# EAGLE library part MTXDOT-*1-A00-1 (library Multitech)
Multitech xDOT LORA MODULE UFL/TRC 868MHz for Europe
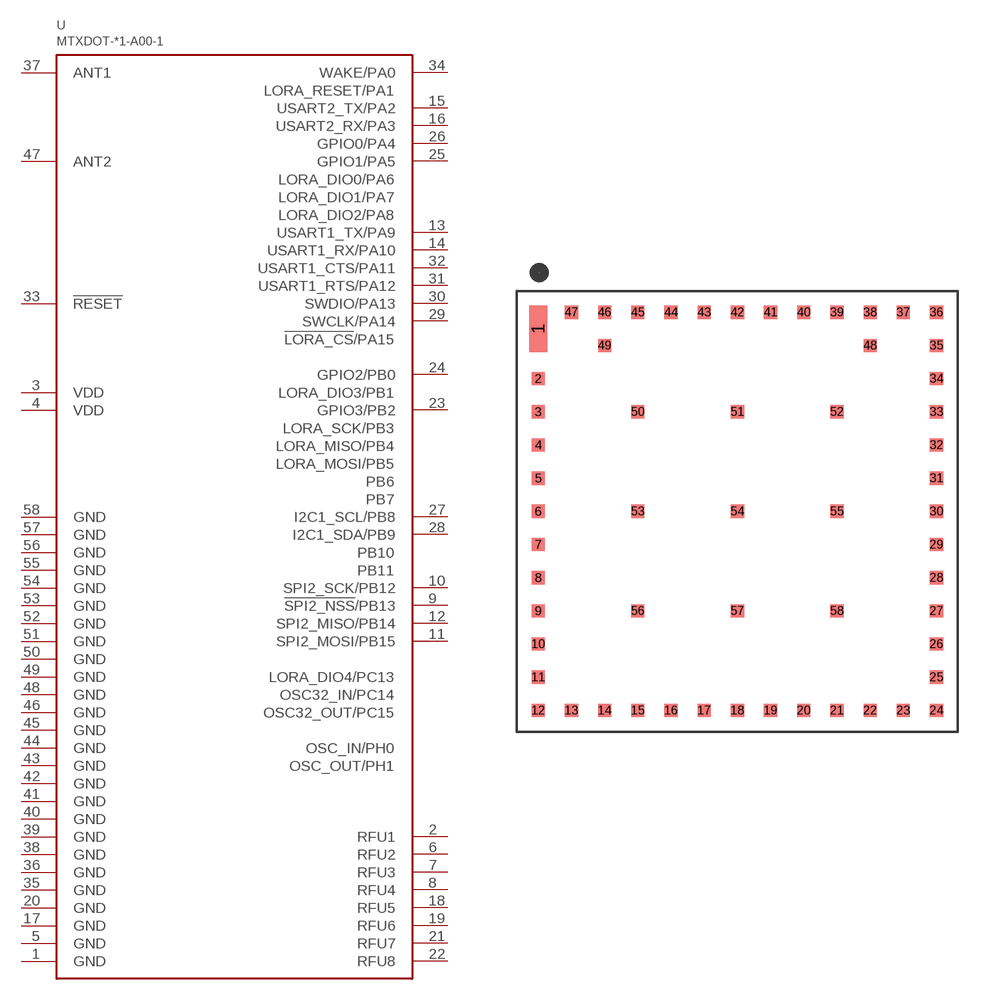
[diagram p0: symbol with the pads of MTXDOT-XX1-A00-1; footprint MTXDOT-XX1-A00-1]

Designator prefix U

## MTXDOT-EU1-A00-1, MTXDOT-NA1-A00-1  [MTXDOT-XX1-A00-1]
1  GND
2  RFU1
3  VDD
4  VDD
5  GND
6  RFU2
7  RFU3
8  RFU4
9  !SPI2_NSS!/PB13
10  SPI2_SCK/PB12
11  SPI2_MOSI/PB15
12  SPI2_MISO/PB14
13  USART1_TX/PA9
14  USART1_RX/PA10
15  USART2_TX/PA2
16  USART2_RX/PA3
17  GND
18  RFU5
19  RFU6
20  GND
21  RFU7
22  RFU8
23  GPIO3/PB2
24  GPIO2/PB0
25  GPIO1/PA5
26  GPIO0/PA4
27  I2C1_SCL/PB8
28  I2C1_SDA/PB9
29  SWCLK/PA14
30  SWDIO/PA13
31  USART1_RTS/PA12
32  USART1_CTS/PA11
33  !RESET
34  WAKE/PA0
35  GND
36  GND
37  ANT1
38  GND
39  GND
40  GND
41  GND
42  GND
43  GND
44  GND
45  GND
46  GND
47  ANT2
48  GND
49  GND
50  GND
51  GND
52  GND
53  GND
54  GND
55  GND
56  GND
57  GND
58  GND

## Footprint MTXDOT-XX1-A00-1 (pad centres in mm)
smd 0.97 x 2.49: 1 0,0
smd 0.71 x 0.71: 2 0,-2.67; 3 0,-4.45; 4 0,-6.23; 5 0,-8.01; 6 0,-9.79; 7 0,-11.57; 8 0,-13.35; 9 0,-15.13; 10 0,-16.91; 11 0,-18.69; 12 0,-20.47; 13 1.78,-20.47; 14 3.56,-20.47; 15 5.34,-20.47; 16 7.12,-20.47; 17 8.9,-20.47; 18 10.68,-20.47; 19 12.46,-20.47; 20 14.24,-20.47; 21 16.02,-20.47; 22 17.8,-20.47; 23 19.58,-20.47; 24 21.36,-20.47; 25 21.36,-18.69; 26 21.36,-16.91; 27 21.36,-15.13; 28 21.36,-13.35; 29 21.36,-11.57; 30 21.36,-9.79; 31 21.36,-8.01; 32 21.36,-6.23; 33 21.36,-4.45; 34 21.36,-2.67; 35 21.36,-0.89; 36 21.36,0.89; 37 19.58,0.89; 38 17.8,0.89; 39 16.02,0.89; 40 14.24,0.89; 41 12.46,0.89; 42 10.68,0.89; 43 8.9,0.89; 44 7.12,0.89; 45 5.34,0.89; 46 3.56,0.89; 47 1.78,0.89; 48 17.8,-0.89; 49 3.56,-0.89; 50 5.34,-4.45; 51 10.68,-4.45; 52 16.02,-4.45; 53 5.34,-9.79; 54 10.68,-9.79; 55 16.02,-9.79; 56 5.34,-15.13; 57 10.68,-15.13; 58 16.02,-15.13